# EAGLE library part SIM8050-6-0-14-01-X_REVF (library SIM8050-6-0-14-01-X_REVF)
Nano SIM Card Connector, Push-Pull Type, 6 Pin, SMT, Profile 1.35mm
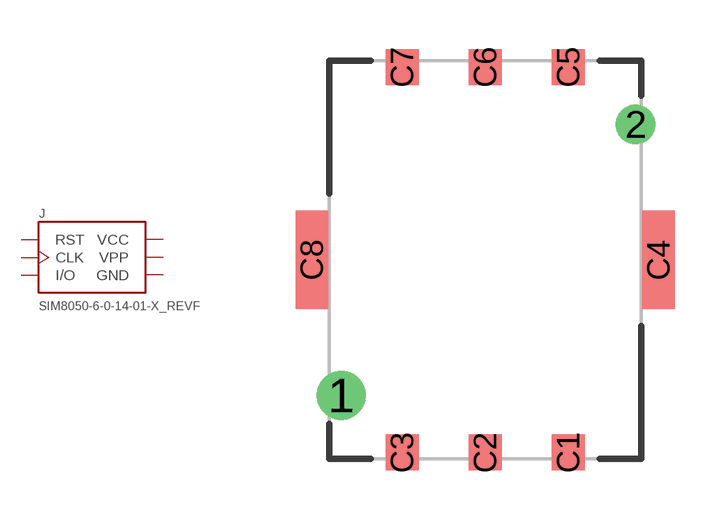
[diagram p0: symbol with the pads of GCT_SIM8050-6-0-14-01-X_REVF; footprint GCT_SIM8050-6-0-14-01-X_REVF]

Designator prefix J

## SIM8050-6-0-14-01-X_REVF (Availability: Unavailable; Description: 6 Position Card Connector NANO SIM Surface Mount, Right Angle Gold; MF: Global Connector Technology; MP: SIM8050-6-0-14-01-A; Package: None; Price: None)  [GCT_SIM8050-6-0-14-01-X_REVF]
C1  VCC  pwr
C2  RST  in
C3  CLK  in
C5  GND  pwr
C6  VPP  pwr
C7  I/O

## Footprint GCT_SIM8050-6-0-14-01-X_REVF (pad centres in mm)
drill 0.9 pad 1.5: 1 -4.4,-4.15
drill 0.7 pad 1.2: 2 4.6,4.15
smd 1 x 1.1: C1 2.54,-5.9; C2 0,-5.9; C3 -2.54,-5.9; C5 2.54,5.9; C6 0,5.9; C7 -2.54,5.9
smd 1 x 3: C4 5.3,0; C8 -5.3,0